# EAGLE library part BUFFER-2X1BIT (library CougsInSpace-IC-Logic)
Buffer - 2x1b NC7WZ16 <https://github.com/CougsInSpace/Resources/blob/master/SupplierDocuments/ON%20Semiconductor/NC7WZ16_NonInvertingBuffer2x1bit.pdf>
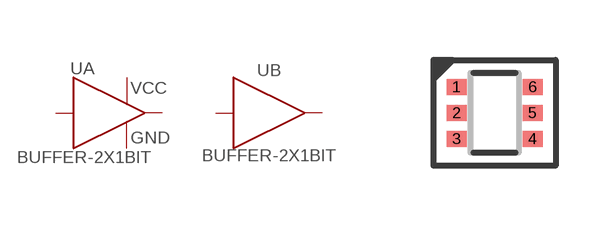
[diagram p0: symbol with the pads of SOT363; footprint SOT363]

Designator prefix U; gates A=BUFFER-POWER B=BUFFER

## BUFFER-2X1BIT-SC70 (SKU: 28-0001; VALUE: NC7WZ16P6X)  [SOT363]
1  A:A  in
2  A:GND  pwr
3  B:A  in
4  B:Y  out
5  A:VCC  pwr
6  A:Y  out

## Footprint SOT363 (pad centres in mm)
SOT363 (SC70-6)
smd 0.5 x 0.4: 1 -0.95,0.65; 2 -0.95,0; 3 -0.95,-0.65; 4 0.95,-0.65; 5 0.95,0; 6 0.95,0.65